# EAGLE library part KIOXIA_AMERICA-NAND_FLASH-TC58CVG0S3HRAIG (library Module_ICs)
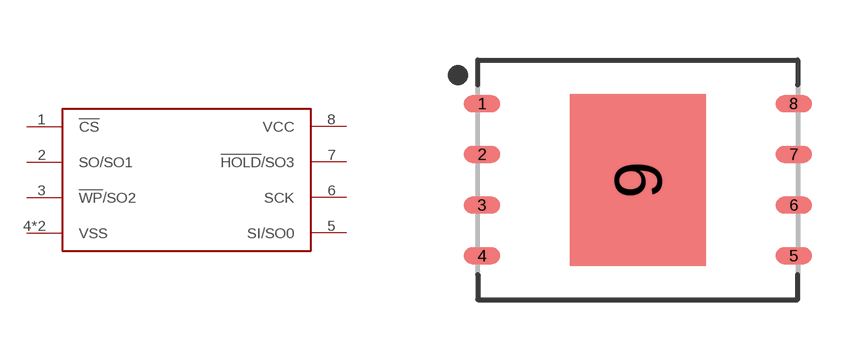
[diagram p40: symbol with the pads of KIOXIA_AMERICA-NAND_FLASH-TC58CVG0S3HRAIG; footprint KIOXIA_AMERICA-NAND_FLASH-TC58CVG0S3HRAIG]

Designator prefix U

## KIOXIA_AMERICA-NAND_FLASH-TC58CVG0S3HRAIG  [KIOXIA_AMERICA-NAND_FLASH-TC58CVG0S3HRAIG]
1  !CS
2  SO/SO1
3  !WP!/SO2
4  VSS
5  SI/SO0
6  SCK
7  !HOLD!/SO3
8  VCC
9  VSS

## Footprint KIOXIA_AMERICA-NAND_FLASH-TC58CVG0S3HRAIG (pad centres in mm)
8-SON (DFN), 1.27 mm pitch, 6.00 X 8.00 X 0.90 mm body, 4.30 X 3.40 mm thermal pad 8-pin SON (DFN) package with 1.27 mm pitch with body size 6.00 X 8.00 X 0.90 mm and thermal pad size 4.30 X 3.40 mm
smd 0.911 x 0.42: 1 -3.901,1.905; 2 -3.901,0.635; 3 -3.901,-0.635; 4 -3.901,-1.905; 5 3.901,-1.905; 6 3.901,-0.635; 7 3.901,0.635; 8 3.901,1.905
smd 3.4 x 4.3: 9 0,0